# Altium schematic symbol library MJ-2506.SchLib: 1 symbol
Pins are listed as number, name and electrical type; pins without a type are passive.

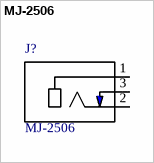
[diagram p0: symbol MJ-2506]

## MJ-2506
designator J?
Value: *
footprint MJ-2506 (2.5mm Audio Jack - Mono)
pins: 1, 2, 3